# Altium integrated library TI Data Converters Analog to Digital Converter.IntLib: 2198 symbols (part 110 of 164)
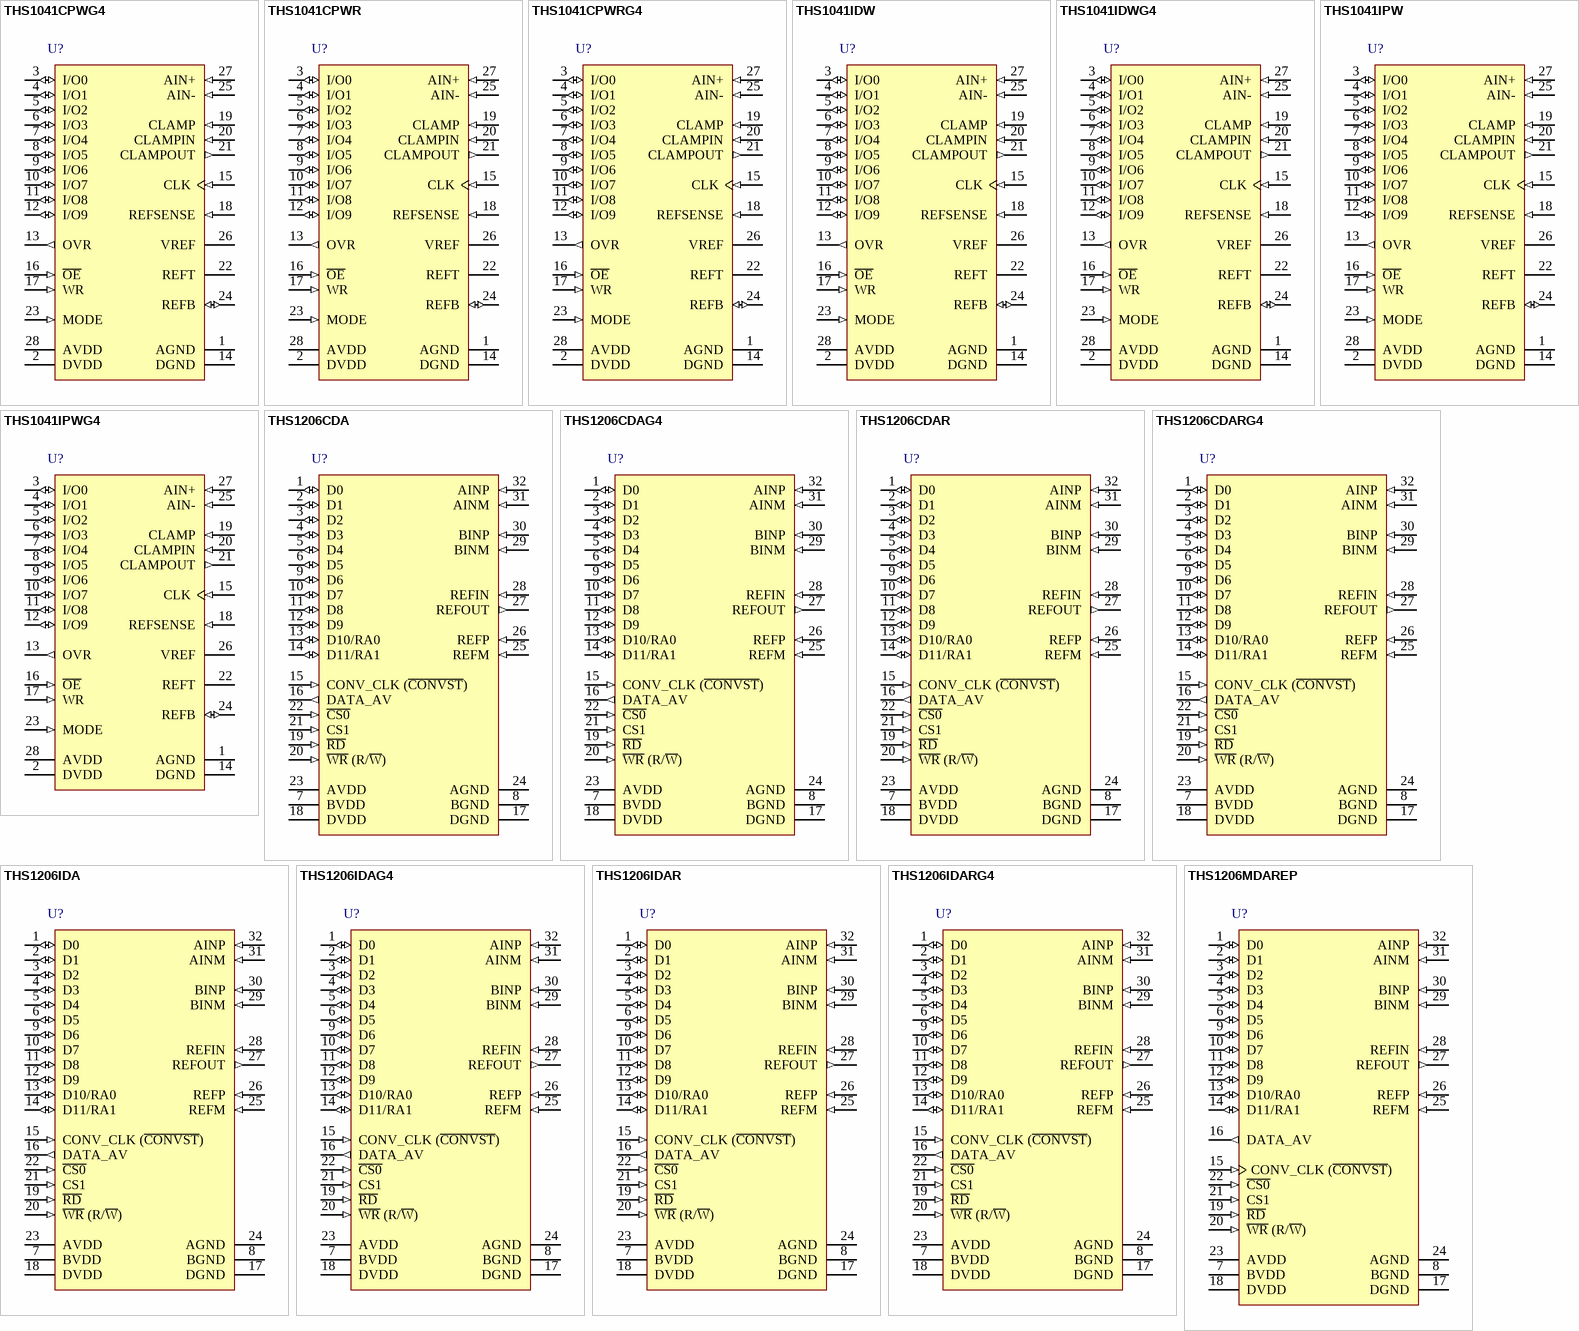
[diagram p235: symbols THS1041CPWG4 to THS1206MDAREP]

## THS1206CDAR
designator U?
12-Bit, 6 MSPS ADC Quad Channel (Configuration), DSP / uP Interface, Integral 16 x FIFO, Channel Autoscan, Low Power, 0 to 70 degC, 32-pin SOP (DA32), Green (RoHS & no Sb/Br); Manufacturer: Texas Instruments; PartNumber: THS1206CDAR; # Input Channels: 4; Analog Voltage AV/DD(Max)(V): 5.25; Analog Voltage AV/DD(Min)(V): 4.75; Architecture: Pipeline; Digital Supply(Min)(V): 3; ENOB(Bits): 11; INL(Max)(+/-LSB): 1.5; Interface: Parallel CMOS; Resolution(Bits): 12; Sample Rate (max)(SPS): 6M; SFDR(dB): 71; SINAD(dB): 65; SNR(dB): 69; SubFamily: Precision ADC (<=10MSPS); DatasheetVersion: SLAS217H; PackageVersion: 4040066/F, 01/2009; PackageReference: DA32; PackageDescription: 32-Pin Plastic Small Outline, Body 11 x 6.1 mm, Pitch 0.65 mm; Supplier 1: Mouser; Supplier Part Number 1: 595-V62/03608-03XE; Digital Supply(Max)(V): 5.25; Eco-Plan: Green (RoHS & no Sb/Br); Mounting Technology: Surface Mount; Code_JEDEC: MO-225; ComponentLink1Description: Manufacturer URL; ComponentLink1URL: http://www.ti.com/; ComponentLink2Description: Datasheet; ComponentLink2URL: http://www.ti.com/general/docs/lit/getliterature.tsp?genericPartNumber=THS1206&fileType=pdf; ComponentLink3Description: Package Specification; ComponentLink3URL: http://www.ti.com/lit/ml/mtss002e/mtss002e.pdf
footprint TI-DA32_N (SOP, 32-Leads, Body 11x6.1mm, Pitch 0.65mm, IPC Medium Density)
footprint TI-DA32_L (SOP, 32-Leads, Body 11x6.1mm, Pitch 0.65mm, IPC High Density)
footprint TI-DA32_M (SOP, 32-Leads, Body 11x6.1mm, Pitch 0.65mm, IPC Low Density)
pins: 1 D0 (io) "Digital input, output; D0 = LSB", 2 D1 (io) "Digital input, output", 3 D2 (io) "Digital input, output", 4 D3 (io) "Digital input, output", 5 D4 (io) "Digital input, output", 6 D5 (io) "Digital input, output", 7 BVDD (power) "Digital supply voltage for buffer", 8 BGND (power) "Digital ground for buffer", 9 D6 (io) "Digital input, output", 10 D7 (io) "Digital input, output", 11 D8 (io) "Digital input, output", 12 D9 (io) "Digital input, output", 13 D10/RA0 (io) "Digital input, output. The data line D10 is also used as an address line (RA0) for the control register. This is required for writing to the control register 0 and control register 1.", 14 D11/RA1 (io) "Digital input, output (D11 = MSB). The data line D11 is also used as an address line (RA1) for the control register. This is required for writing to control register 0 and control register 1.", 15 CONV_CLK (~{CONVST}) (in) "Digital input. This input is used to apply an external conversion clock in continuous conversion mode. In single conversion mode, this input functions as the conversion start (C\O\N\V\S\T\) input. A high to low transition on (See Datasheet)", 16 DATA_AV (out) "Data available signal, which can be used to generate an interrupt for processors and as a level information of the internal FIFO. This signal can be configured to be active low or high and can be configured as a static level (See Datasheet)", 17 DGND (power) "Digital ground. Ground reference for digital circuitry.", 18 DVDD (power) "Digital supply voltage", 19 ~{RD} (in) "The R\D\ input is used only if the W\R\ input is configured as a write only input. In this case, it is a digital input, active low as a data read select from the processor.", 20 ~{WR} (R/~{W}) (in) "This input is programmable. It functions as a read-write input R/W and can also be configured as a write-only input W\R\, which is active low and used as data write select from the processor. In this case, the R\D\ input is (See Datasheet)", 21 CS1 (in) "Chip select input (active high)", 22 ~{CS0} (in) "Chip select input (active low)", 23 AVDD (power) "Analog supply voltage", 24 AGND (power) "Analog ground", 25 REFM (in) "Reference input, requires a bypass capacitor of 10 uF to AGND in order to bypass the internal reference voltage. An external reference voltage at this input can be applied. This option can be programmed through control (See Datasheet)", 26 REFP (in) "Reference input, requires a bypass capacitor of 10 uF to AGND in order to bypass the internal reference voltage. An external reference voltage at this input can be applied. This option can be programmed through control (See Datasheet)", 27 REFOUT (out) "Analog fixed reference output voltage of 2.5 V. Sink and source capability of 250 uA. The reference output requires a capacitor of 10 uF to AGND for filtering and stability.", 28 REFIN (in) "Common-mode reference input for the analog input channels. It is recommended that this pin be connected to the reference output REFOUT.", 29 BINM (in) "Analog input, single-ended or negative input of differential channel B", 30 BINP (in) "Analog input, single-ended or positive input of differential channel B", 31 AINM (in) "Analog input, single-ended or negative input of differential channel A", 32 AINP (in) "Analog input, single-ended or positive input of differential channel A"

## THS1206CDARG4
designator U?
12-Bit, 6 MSPS ADC Quad Channel (Configuration), DSP / uP Interface, Integral 16 x FIFO, Channel Autoscan, Low Power, 0 to 70 degC, 32-pin SOP (DA32), Green (RoHS & no Sb/Br); Manufacturer: Texas Instruments; PartNumber: THS1206CDARG4; # Input Channels: 4; Analog Voltage AV/DD(Max)(V): 5.25; Analog Voltage AV/DD(Min)(V): 4.75; Architecture: Pipeline; Digital Supply(Min)(V): 3; ENOB(Bits): 11; INL(Max)(+/-LSB): 1.5; Interface: Parallel CMOS; Resolution(Bits): 12; Sample Rate (max)(SPS): 6M; SFDR(dB): 71; SINAD(dB): 65; SNR(dB): 69; SubFamily: Precision ADC (<=10MSPS); DatasheetVersion: SLAS217H; PackageVersion: 4040066/F, 01/2009; PackageReference: DA32; PackageDescription: 32-Pin Plastic Small Outline, Body 11 x 6.1 mm, Pitch 0.65 mm; Supplier 1: Digi-Key; Supplier Part Number 1: 296-18129-2-ND; Digital Supply(Max)(V): 5.25; Eco-Plan: Green (RoHS & no Sb/Br); Mounting Technology: Surface Mount; Code_JEDEC: MO-225; ComponentLink1Description: Manufacturer URL; ComponentLink1URL: http://www.ti.com/; ComponentLink2Description: Datasheet; ComponentLink2URL: http://www.ti.com/general/docs/lit/getliterature.tsp?genericPartNumber=THS1206&fileType=pdf; ComponentLink3Description: Package Specification; ComponentLink3URL: http://www.ti.com/lit/ml/mtss002e/mtss002e.pdf
footprint TI-DA32_N (SOP, 32-Leads, Body 11x6.1mm, Pitch 0.65mm, IPC Medium Density)
footprint TI-DA32_L (SOP, 32-Leads, Body 11x6.1mm, Pitch 0.65mm, IPC High Density)
footprint TI-DA32_M (SOP, 32-Leads, Body 11x6.1mm, Pitch 0.65mm, IPC Low Density)
pins: 1 D0 (io) "Digital input, output; D0 = LSB", 2 D1 (io) "Digital input, output", 3 D2 (io) "Digital input, output", 4 D3 (io) "Digital input, output", 5 D4 (io) "Digital input, output", 6 D5 (io) "Digital input, output", 7 BVDD (power) "Digital supply voltage for buffer", 8 BGND (power) "Digital ground for buffer", 9 D6 (io) "Digital input, output", 10 D7 (io) "Digital input, output", 11 D8 (io) "Digital input, output", 12 D9 (io) "Digital input, output", 13 D10/RA0 (io) "Digital input, output. The data line D10 is also used as an address line (RA0) for the control register. This is required for writing to the control register 0 and control register 1.", 14 D11/RA1 (io) "Digital input, output (D11 = MSB). The data line D11 is also used as an address line (RA1) for the control register. This is required for writing to control register 0 and control register 1.", 15 CONV_CLK (~{CONVST}) (in) "Digital input. This input is used to apply an external conversion clock in continuous conversion mode. In single conversion mode, this input functions as the conversion start (C\O\N\V\S\T\) input. A high to low transition on (See Datasheet)", 16 DATA_AV (out) "Data available signal, which can be used to generate an interrupt for processors and as a level information of the internal FIFO. This signal can be configured to be active low or high and can be configured as a static level (See Datasheet)", 17 DGND (power) "Digital ground. Ground reference for digital circuitry.", 18 DVDD (power) "Digital supply voltage", 19 ~{RD} (in) "The R\D\ input is used only if the W\R\ input is configured as a write only input. In this case, it is a digital input, active low as a data read select from the processor.", 20 ~{WR} (R/~{W}) (in) "This input is programmable. It functions as a read-write input R/W and can also be configured as a write-only input W\R\, which is active low and used as data write select from the processor. In this case, the R\D\ input is (See Datasheet)", 21 CS1 (in) "Chip select input (active high)", 22 ~{CS0} (in) "Chip select input (active low)", 23 AVDD (power) "Analog supply voltage", 24 AGND (power) "Analog ground", 25 REFM (in) "Reference input, requires a bypass capacitor of 10 uF to AGND in order to bypass the internal reference voltage. An external reference voltage at this input can be applied. This option can be programmed through control (See Datasheet)", 26 REFP (in) "Reference input, requires a bypass capacitor of 10 uF to AGND in order to bypass the internal reference voltage. An external reference voltage at this input can be applied. This option can be programmed through control (See Datasheet)", 27 REFOUT (out) "Analog fixed reference output voltage of 2.5 V. Sink and source capability of 250 uA. The reference output requires a capacitor of 10 uF to AGND for filtering and stability.", 28 REFIN (in) "Common-mode reference input for the analog input channels. It is recommended that this pin be connected to the reference output REFOUT.", 29 BINM (in) "Analog input, single-ended or negative input of differential channel B", 30 BINP (in) "Analog input, single-ended or positive input of differential channel B", 31 AINM (in) "Analog input, single-ended or negative input of differential channel A", 32 AINP (in) "Analog input, single-ended or positive input of differential channel A"

## THS1206IDA
designator U?
12-Bit, 6 MSPS ADC Quad Channel (Configuration), DSP / uP Interface, Integral 16 x FIFO, Channel Autoscan, Low Power, -40 to 85 degC, 32-pin SOP (DA32), Green (RoHS & no Sb/Br); Manufacturer: Texas Instruments; PartNumber: THS1206IDA; # Input Channels: 4; Analog Voltage AV/DD(Max)(V): 5.25; Analog Voltage AV/DD(Min)(V): 4.75; Architecture: Pipeline; Digital Supply(Min)(V): 3; ENOB(Bits): 11; INL(Max)(+/-LSB): 1.5; Interface: Parallel CMOS; Resolution(Bits): 12; Sample Rate (max)(SPS): 6M; SFDR(dB): 71; SINAD(dB): 65; SNR(dB): 69; SubFamily: Precision ADC (<=10MSPS); DatasheetVersion: SLAS217H; PackageVersion: 4040066/F, 01/2009; PackageReference: DA32; PackageDescription: 32-Pin Plastic Small Outline, Body 11 x 6.1 mm, Pitch 0.65 mm; Supplier 1: Mouser; Supplier Part Number 1: 595-V62/03609-01XE; Digital Supply(Max)(V): 5.25; Eco-Plan: Green (RoHS & no Sb/Br); Mounting Technology: Surface Mount; Code_JEDEC: MO-225; ComponentLink1Description: Manufacturer URL; ComponentLink1URL: http://www.ti.com/; ComponentLink2Description: Datasheet; ComponentLink2URL: http://www.ti.com/general/docs/lit/getliterature.tsp?genericPartNumber=THS1206&fileType=pdf; ComponentLink3Description: Package Specification; ComponentLink3URL: http://www.ti.com/lit/ml/mtss002e/mtss002e.pdf
footprint TI-DA32_N (SOP, 32-Leads, Body 11x6.1mm, Pitch 0.65mm, IPC Medium Density)
footprint TI-DA32_L (SOP, 32-Leads, Body 11x6.1mm, Pitch 0.65mm, IPC High Density)
footprint TI-DA32_M (SOP, 32-Leads, Body 11x6.1mm, Pitch 0.65mm, IPC Low Density)
pins: 1 D0 (io) "Digital input, output; D0 = LSB", 2 D1 (io) "Digital input, output", 3 D2 (io) "Digital input, output", 4 D3 (io) "Digital input, output", 5 D4 (io) "Digital input, output", 6 D5 (io) "Digital input, output", 7 BVDD (power) "Digital supply voltage for buffer", 8 BGND (power) "Digital ground for buffer", 9 D6 (io) "Digital input, output", 10 D7 (io) "Digital input, output", 11 D8 (io) "Digital input, output", 12 D9 (io) "Digital input, output", 13 D10/RA0 (io) "Digital input, output. The data line D10 is also used as an address line (RA0) for the control register. This is required for writing to the control register 0 and control register 1.", 14 D11/RA1 (io) "Digital input, output (D11 = MSB). The data line D11 is also used as an address line (RA1) for the control register. This is required for writing to control register 0 and control register 1.", 15 CONV_CLK (~{CONVST}) (in) "Digital input. This input is used to apply an external conversion clock in continuous conversion mode. In single conversion mode, this input functions as the conversion start (C\O\N\V\S\T\) input. A high to low transition on (See Datasheet)", 16 DATA_AV (out) "Data available signal, which can be used to generate an interrupt for processors and as a level information of the internal FIFO. This signal can be configured to be active low or high and can be configured as a static level (See Datasheet)", 17 DGND (power) "Digital ground. Ground reference for digital circuitry.", 18 DVDD (power) "Digital supply voltage", 19 ~{RD} (in) "The R\D\ input is used only if the W\R\ input is configured as a write only input. In this case, it is a digital input, active low as a data read select from the processor.", 20 ~{WR} (R/~{W}) (in) "This input is programmable. It functions as a read-write input R/W and can also be configured as a write-only input W\R\, which is active low and used as data write select from the processor. In this case, the R\D\ input is (See Datasheet)", 21 CS1 (in) "Chip select input (active high)", 22 ~{CS0} (in) "Chip select input (active low)", 23 AVDD (power) "Analog supply voltage", 24 AGND (power) "Analog ground", 25 REFM (in) "Reference input, requires a bypass capacitor of 10 uF to AGND in order to bypass the internal reference voltage. An external reference voltage at this input can be applied. This option can be programmed through control (See Datasheet)", 26 REFP (in) "Reference input, requires a bypass capacitor of 10 uF to AGND in order to bypass the internal reference voltage. An external reference voltage at this input can be applied. This option can be programmed through control (See Datasheet)", 27 REFOUT (out) "Analog fixed reference output voltage of 2.5 V. Sink and source capability of 250 uA. The reference output requires a capacitor of 10 uF to AGND for filtering and stability.", 28 REFIN (in) "Common-mode reference input for the analog input channels. It is recommended that this pin be connected to the reference output REFOUT.", 29 BINM (in) "Analog input, single-ended or negative input of differential channel B", 30 BINP (in) "Analog input, single-ended or positive input of differential channel B", 31 AINM (in) "Analog input, single-ended or negative input of differential channel A", 32 AINP (in) "Analog input, single-ended or positive input of differential channel A"

## THS1206IDAG4
designator U?
12-Bit, 6 MSPS ADC Quad Channel (Configuration), DSP / uP Interface, Integral 16 x FIFO, Channel Autoscan, Low Power, -40 to 85 degC, 32-pin SOP (DA32), Green (RoHS & no Sb/Br); Manufacturer: Texas Instruments; PartNumber: THS1206IDAG4; # Input Channels: 4; Analog Voltage AV/DD(Max)(V): 5.25; Analog Voltage AV/DD(Min)(V): 4.75; Architecture: Pipeline; Digital Supply(Min)(V): 3; ENOB(Bits): 11; INL(Max)(+/-LSB): 1.5; Interface: Parallel CMOS; Resolution(Bits): 12; Sample Rate (max)(SPS): 6M; SFDR(dB): 71; SINAD(dB): 65; SNR(dB): 69; SubFamily: Precision ADC (<=10MSPS); DatasheetVersion: SLAS217H; PackageVersion: 4040066/F, 01/2009; PackageReference: DA32; PackageDescription: 32-Pin Plastic Small Outline, Body 11 x 6.1 mm, Pitch 0.65 mm; Supplier 1: Digi-Key; Supplier Part Number 1: 296-29579-2-ND; Digital Supply(Max)(V): 5.25; Eco-Plan: Green (RoHS & no Sb/Br); Mounting Technology: Surface Mount; Code_JEDEC: MO-225; ComponentLink1Description: Manufacturer URL; ComponentLink1URL: http://www.ti.com/; ComponentLink2Description: Datasheet; ComponentLink2URL: http://www.ti.com/general/docs/lit/getliterature.tsp?genericPartNumber=THS1206&fileType=pdf; ComponentLink3Description: Package Specification; ComponentLink3URL: http://www.ti.com/lit/ml/mtss002e/mtss002e.pdf
footprint TI-DA32_N (SOP, 32-Leads, Body 11x6.1mm, Pitch 0.65mm, IPC Medium Density)
footprint TI-DA32_L (SOP, 32-Leads, Body 11x6.1mm, Pitch 0.65mm, IPC High Density)
footprint TI-DA32_M (SOP, 32-Leads, Body 11x6.1mm, Pitch 0.65mm, IPC Low Density)
pins: 1 D0 (io) "Digital input, output; D0 = LSB", 2 D1 (io) "Digital input, output", 3 D2 (io) "Digital input, output", 4 D3 (io) "Digital input, output", 5 D4 (io) "Digital input, output", 6 D5 (io) "Digital input, output", 7 BVDD (power) "Digital supply voltage for buffer", 8 BGND (power) "Digital ground for buffer", 9 D6 (io) "Digital input, output", 10 D7 (io) "Digital input, output", 11 D8 (io) "Digital input, output", 12 D9 (io) "Digital input, output", 13 D10/RA0 (io) "Digital input, output. The data line D10 is also used as an address line (RA0) for the control register. This is required for writing to the control register 0 and control register 1.", 14 D11/RA1 (io) "Digital input, output (D11 = MSB). The data line D11 is also used as an address line (RA1) for the control register. This is required for writing to control register 0 and control register 1.", 15 CONV_CLK (~{CONVST}) (in) "Digital input. This input is used to apply an external conversion clock in continuous conversion mode. In single conversion mode, this input functions as the conversion start (C\O\N\V\S\T\) input. A high to low transition on (See Datasheet)", 16 DATA_AV (out) "Data available signal, which can be used to generate an interrupt for processors and as a level information of the internal FIFO. This signal can be configured to be active low or high and can be configured as a static level (See Datasheet)", 17 DGND (power) "Digital ground. Ground reference for digital circuitry.", 18 DVDD (power) "Digital supply voltage", 19 ~{RD} (in) "The R\D\ input is used only if the W\R\ input is configured as a write only input. In this case, it is a digital input, active low as a data read select from the processor.", 20 ~{WR} (R/~{W}) (in) "This input is programmable. It functions as a read-write input R/W and can also be configured as a write-only input W\R\, which is active low and used as data write select from the processor. In this case, the R\D\ input is (See Datasheet)", 21 CS1 (in) "Chip select input (active high)", 22 ~{CS0} (in) "Chip select input (active low)", 23 AVDD (power) "Analog supply voltage", 24 AGND (power) "Analog ground", 25 REFM (in) "Reference input, requires a bypass capacitor of 10 uF to AGND in order to bypass the internal reference voltage. An external reference voltage at this input can be applied. This option can be programmed through control (See Datasheet)", 26 REFP (in) "Reference input, requires a bypass capacitor of 10 uF to AGND in order to bypass the internal reference voltage. An external reference voltage at this input can be applied. This option can be programmed through control (See Datasheet)", 27 REFOUT (out) "Analog fixed reference output voltage of 2.5 V. Sink and source capability of 250 uA. The reference output requires a capacitor of 10 uF to AGND for filtering and stability.", 28 REFIN (in) "Common-mode reference input for the analog input channels. It is recommended that this pin be connected to the reference output REFOUT.", 29 BINM (in) "Analog input, single-ended or negative input of differential channel B", 30 BINP (in) "Analog input, single-ended or positive input of differential channel B", 31 AINM (in) "Analog input, single-ended or negative input of differential channel A", 32 AINP (in) "Analog input, single-ended or positive input of differential channel A"

## THS1206IDAR
designator U?
12-Bit, 6 MSPS ADC Quad Channel (Configuration), DSP / uP Interface, Integral 16 x FIFO, Channel Autoscan, Low Power, -40 to 85 degC, 32-pin SOP (DA32), Green (RoHS & no Sb/Br); Manufacturer: Texas Instruments; PartNumber: THS1206IDAR; # Input Channels: 4; Analog Voltage AV/DD(Max)(V): 5.25; Analog Voltage AV/DD(Min)(V): 4.75; Architecture: Pipeline; Digital Supply(Min)(V): 3; ENOB(Bits): 11; INL(Max)(+/-LSB): 1.5; Interface: Parallel CMOS; Resolution(Bits): 12; Sample Rate (max)(SPS): 6M; SFDR(dB): 71; SINAD(dB): 65; SNR(dB): 69; SubFamily: Precision ADC (<=10MSPS); DatasheetVersion: SLAS217H; PackageVersion: 4040066/F, 01/2009; PackageReference: DA32; PackageDescription: 32-Pin Plastic Small Outline, Body 11 x 6.1 mm, Pitch 0.65 mm; Supplier 1: Digi-Key; Supplier Part Number 1: 296-29750-2-ND; Digital Supply(Max)(V): 5.25; Eco-Plan: Green (RoHS & no Sb/Br); Mounting Technology: Surface Mount; Code_JEDEC: MO-225; ComponentLink1Description: Manufacturer URL; ComponentLink1URL: http://www.ti.com/; ComponentLink2Description: Datasheet; ComponentLink2URL: http://www.ti.com/general/docs/lit/getliterature.tsp?genericPartNumber=THS1206&fileType=pdf; ComponentLink3Description: Package Specification; ComponentLink3URL: http://www.ti.com/lit/ml/mtss002e/mtss002e.pdf
footprint TI-DA32_N (SOP, 32-Leads, Body 11x6.1mm, Pitch 0.65mm, IPC Medium Density)
footprint TI-DA32_L (SOP, 32-Leads, Body 11x6.1mm, Pitch 0.65mm, IPC High Density)
footprint TI-DA32_M (SOP, 32-Leads, Body 11x6.1mm, Pitch 0.65mm, IPC Low Density)
pins: 1 D0 (io) "Digital input, output; D0 = LSB", 2 D1 (io) "Digital input, output", 3 D2 (io) "Digital input, output", 4 D3 (io) "Digital input, output", 5 D4 (io) "Digital input, output", 6 D5 (io) "Digital input, output", 7 BVDD (power) "Digital supply voltage for buffer", 8 BGND (power) "Digital ground for buffer", 9 D6 (io) "Digital input, output", 10 D7 (io) "Digital input, output", 11 D8 (io) "Digital input, output", 12 D9 (io) "Digital input, output", 13 D10/RA0 (io) "Digital input, output. The data line D10 is also used as an address line (RA0) for the control register. This is required for writing to the control register 0 and control register 1.", 14 D11/RA1 (io) "Digital input, output (D11 = MSB). The data line D11 is also used as an address line (RA1) for the control register. This is required for writing to control register 0 and control register 1.", 15 CONV_CLK (~{CONVST}) (in) "Digital input. This input is used to apply an external conversion clock in continuous conversion mode. In single conversion mode, this input functions as the conversion start (C\O\N\V\S\T\) input. A high to low transition on (See Datasheet)", 16 DATA_AV (out) "Data available signal, which can be used to generate an interrupt for processors and as a level information of the internal FIFO. This signal can be configured to be active low or high and can be configured as a static level (See Datasheet)", 17 DGND (power) "Digital ground. Ground reference for digital circuitry.", 18 DVDD (power) "Digital supply voltage", 19 ~{RD} (in) "The R\D\ input is used only if the W\R\ input is configured as a write only input. In this case, it is a digital input, active low as a data read select from the processor.", 20 ~{WR} (R/~{W}) (in) "This input is programmable. It functions as a read-write input R/W and can also be configured as a write-only input W\R\, which is active low and used as data write select from the processor. In this case, the R\D\ input is (See Datasheet)", 21 CS1 (in) "Chip select input (active high)", 22 ~{CS0} (in) "Chip select input (active low)", 23 AVDD (power) "Analog supply voltage", 24 AGND (power) "Analog ground", 25 REFM (in) "Reference input, requires a bypass capacitor of 10 uF to AGND in order to bypass the internal reference voltage. An external reference voltage at this input can be applied. This option can be programmed through control (See Datasheet)", 26 REFP (in) "Reference input, requires a bypass capacitor of 10 uF to AGND in order to bypass the internal reference voltage. An external reference voltage at this input can be applied. This option can be programmed through control (See Datasheet)", 27 REFOUT (out) "Analog fixed reference output voltage of 2.5 V. Sink and source capability of 250 uA. The reference output requires a capacitor of 10 uF to AGND for filtering and stability.", 28 REFIN (in) "Common-mode reference input for the analog input channels. It is recommended that this pin be connected to the reference output REFOUT.", 29 BINM (in) "Analog input, single-ended or negative input of differential channel B", 30 BINP (in) "Analog input, single-ended or positive input of differential channel B", 31 AINM (in) "Analog input, single-ended or negative input of differential channel A", 32 AINP (in) "Analog input, single-ended or positive input of differential channel A"

## THS1206IDARG4
designator U?
12-Bit, 6 MSPS ADC Quad Channel (Configuration), DSP / uP Interface, Integral 16 x FIFO, Channel Autoscan, Low Power, -40 to 85 degC, 32-pin SOP (DA32), Green (RoHS & no Sb/Br); Manufacturer: Texas Instruments; PartNumber: THS1206IDARG4; # Input Channels: 4; Analog Voltage AV/DD(Max)(V): 5.25; Analog Voltage AV/DD(Min)(V): 4.75; Architecture: Pipeline; Digital Supply(Min)(V): 3; ENOB(Bits): 11; INL(Max)(+/-LSB): 1.5; Interface: Parallel CMOS; Resolution(Bits): 12; Sample Rate (max)(SPS): 6M; SFDR(dB): 71; SINAD(dB): 65; SNR(dB): 69; SubFamily: Precision ADC (<=10MSPS); DatasheetVersion: SLAS217H; PackageVersion: 4040066/F, 01/2009; PackageReference: DA32; PackageDescription: 32-Pin Plastic Small Outline, Body 11 x 6.1 mm, Pitch 0.65 mm; Supplier 1: Digi-Key; Supplier Part Number 1: 296-2970-5-ND; Digital Supply(Max)(V): 5.25; Eco-Plan: Green (RoHS & no Sb/Br); Mounting Technology: Surface Mount; Code_JEDEC: MO-225; ComponentLink1Description: Manufacturer URL; ComponentLink1URL: http://www.ti.com/; ComponentLink2Description: Datasheet; ComponentLink2URL: http://www.ti.com/general/docs/lit/getliterature.tsp?genericPartNumber=THS1206&fileType=pdf; ComponentLink3Description: Package Specification; ComponentLink3URL: http://www.ti.com/lit/ml/mtss002e/mtss002e.pdf
footprint TI-DA32_N (SOP, 32-Leads, Body 11x6.1mm, Pitch 0.65mm, IPC Medium Density)
footprint TI-DA32_L (SOP, 32-Leads, Body 11x6.1mm, Pitch 0.65mm, IPC High Density)
footprint TI-DA32_M (SOP, 32-Leads, Body 11x6.1mm, Pitch 0.65mm, IPC Low Density)
pins: 1 D0 (io) "Digital input, output; D0 = LSB", 2 D1 (io) "Digital input, output", 3 D2 (io) "Digital input, output", 4 D3 (io) "Digital input, output", 5 D4 (io) "Digital input, output", 6 D5 (io) "Digital input, output", 7 BVDD (power) "Digital supply voltage for buffer", 8 BGND (power) "Digital ground for buffer", 9 D6 (io) "Digital input, output", 10 D7 (io) "Digital input, output", 11 D8 (io) "Digital input, output", 12 D9 (io) "Digital input, output", 13 D10/RA0 (io) "Digital input, output. The data line D10 is also used as an address line (RA0) for the control register. This is required for writing to the control register 0 and control register 1.", 14 D11/RA1 (io) "Digital input, output (D11 = MSB). The data line D11 is also used as an address line (RA1) for the control register. This is required for writing to control register 0 and control register 1.", 15 CONV_CLK (~{CONVST}) (in) "Digital input. This input is used to apply an external conversion clock in continuous conversion mode. In single conversion mode, this input functions as the conversion start (C\O\N\V\S\T\) input. A high to low transition on (See Datasheet)", 16 DATA_AV (out) "Data available signal, which can be used to generate an interrupt for processors and as a level information of the internal FIFO. This signal can be configured to be active low or high and can be configured as a static level (See Datasheet)", 17 DGND (power) "Digital ground. Ground reference for digital circuitry.", 18 DVDD (power) "Digital supply voltage", 19 ~{RD} (in) "The R\D\ input is used only if the W\R\ input is configured as a write only input. In this case, it is a digital input, active low as a data read select from the processor.", 20 ~{WR} (R/~{W}) (in) "This input is programmable. It functions as a read-write input R/W and can also be configured as a write-only input W\R\, which is active low and used as data write select from the processor. In this case, the R\D\ input is (See Datasheet)", 21 CS1 (in) "Chip select input (active high)", 22 ~{CS0} (in) "Chip select input (active low)", 23 AVDD (power) "Analog supply voltage", 24 AGND (power) "Analog ground", 25 REFM (in) "Reference input, requires a bypass capacitor of 10 uF to AGND in order to bypass the internal reference voltage. An external reference voltage at this input can be applied. This option can be programmed through control (See Datasheet)", 26 REFP (in) "Reference input, requires a bypass capacitor of 10 uF to AGND in order to bypass the internal reference voltage. An external reference voltage at this input can be applied. This option can be programmed through control (See Datasheet)", 27 REFOUT (out) "Analog fixed reference output voltage of 2.5 V. Sink and source capability of 250 uA. The reference output requires a capacitor of 10 uF to AGND for filtering and stability.", 28 REFIN (in) "Common-mode reference input for the analog input channels. It is recommended that this pin be connected to the reference output REFOUT.", 29 BINM (in) "Analog input, single-ended or negative input of differential channel B", 30 BINP (in) "Analog input, single-ended or positive input of differential channel B", 31 AINM (in) "Analog input, single-ended or negative input of differential channel A", 32 AINP (in) "Analog input, single-ended or positive input of differential channel A"

## THS1206MDAREP
designator U?
Enhanced Product 12-Bit, 6 MSPS ADC Quad Channel, DSP / uP Interface, 16 x FIFO, -55 to 125 degC, 32-pin SOP (DA32), Green (RoHS & no Sb/Br); Manufacturer: Texas Instruments; PartNumber: THS1206MDAREP; # Input Channels: 4; Analog Voltage AV/DD(Max)(V): 5.25; Analog Voltage AV/DD(Min)(V): 4.75; Architecture: Pipeline; Digital Supply(Min)(V): 3; ENOB(Bits): 11; INL(Max)(+/-LSB): 1.8; Interface: Parallel CMOS; Resolution(Bits): 12; Sample Rate (max)(SPS): 6M; SFDR(dB): 71; SINAD(dB): 65; SNR(dB): 69; SubFamily: Precision ADC (<=10MSPS); DatasheetVersion: SGLS126A; PackageVersion: 4040066/F, 01/2009; PackageReference: DA32; PackageDescription: 32-Pin Plastic Small Outline, Body 11 x 6.1 mm, Pitch 0.65 mm; Supplier 1: Digi-Key; Supplier Part Number 1: TLV1572CDG4-ND; Digital Supply(Max)(V): 5.25; Eco-Plan: Green (RoHS & no Sb/Br); Mounting Technology: Surface Mount; Code_JEDEC: MO-225; ComponentLink1Description: Manufacturer URL; ComponentLink1URL: http://www.ti.com/; ComponentLink2Description: Datasheet; ComponentLink2URL: http://www.ti.com/general/docs/lit/getliterature.tsp?genericPartNumber=THS1206-EP&fileType=pdf; ComponentLink3Description: Package Specification; ComponentLink3URL: http://www.ti.com/lit/ml/mtss002e/mtss002e.pdf
footprint TI-DA32_N (SOP, 32-Leads, Body 11x6.1mm, Pitch 0.65mm, IPC Medium Density)
footprint TI-DA32_L (SOP, 32-Leads, Body 11x6.1mm, Pitch 0.65mm, IPC High Density)
footprint TI-DA32_M (SOP, 32-Leads, Body 11x6.1mm, Pitch 0.65mm, IPC Low Density)
pins: 1 D0 (io) "Digital input, output; D0 = LSB", 2 D1 (io) "Digital input, output; D0 = LSB", 3 D2 (io) "Digital input, output; D0 = LSB", 4 D3 (io) "Digital input, output; D0 = LSB", 5 D4 (io) "Digital input, output; D0 = LSB", 6 D5 (io) "Digital input, output; D0 = LSB", 7 BVDD (power) "Digital supply voltage for buffer", 8 BGND (power) "Digital ground for buffer", 9 D6 (io) "Digital input, output; D0 = LSB", 10 D7 (io) "Digital input, output; D0 = LSB", 11 D8 (io) "Digital input, output; D0 = LSB", 12 D9 (io) "Digital input, output; D0 = LSB", 13 D10/RA0 (io) "Digital input, output. The data line D10 is also used as an address line (RA0) for the control register. This is required for writing to control register 0 and control register 1. See Table 8.", 14 D11/RA1 (io) "Digital input, output (D11 = MSB). The data line D11 is also used as an address line (RA1) for the control register. This is required for writing to control register 0 and control register 1. See Table 8.", 15 CONV_CLK (~{CONVST}) (in) "Digital input. This input is used to apply an external conversion clock in the continuous conversion mode. In the single conversion mode, this input functions as the conversion start (C\O\N\V\S\T\) input. A high to low (See Datasheet)", 16 DATA_AV (out) "Data available signal, which can be used to generate an interrupt for processors and as a level information of the internal FIFO. This signal can be configured to be active low or high and can be configured as a static level (See Datasheet)", 17 DGND (power) "Digital ground. Ground reference for digital circuitry.", 18 DVDD (power) "Digital supply voltage", 19 ~{RD} (in) "The R\D\ input is used only if the W\R\ input is configured as a write only input. In this case, it is a digital input, active low as a data read select from the processor. See timing section.", 20 ~{WR} (R/~{W}) (in) "This input is programmable. It functions as a read-write input (R/W\) and can also be configured as a write-only input (W\R\), which is active low and used as data write select from the processor. In this case, the R\D\ (See Datasheet)", 21 CS1 (in) "Chip select input (active high)", 22 ~{CS0} (in) "Chip select input (active low)", 23 AVDD (power) "Analog supply voltage", 24 AGND (power) "Analog ground", 25 REFM (in) "Reference input, requires a bypass capacitor of 10 uF to AGND in order to bypass the internal reference voltage. An external reference voltage at this input can be applied. This option can be programmed through control (See Datasheet)", 26 REFP (in) "Reference input, requires a bypass capacitor of 10 uF to AGND in order to bypass the internal reference voltage. An external reference voltage at this input can be applied. This option can be programmed through control (See Datasheet)", 27 REFOUT (out) "Analog fixed reference output voltage of 2.5 V. Sink and source capability of 250 uA. The reference output requires a capacitor of 10 uF to AGND for filtering and stability.", 28 REFIN (in) "Common-mode reference input for the analog input channels. It is recommended that this pin be connected to the reference output REFOUT.", 29 BINM (in) "Analog input, single-ended or negative input of differential channel B", 30 BINP (in) "Analog input, single-ended or positive input of differential channel B", 31 AINM (in) "Analog input, single-ended or negative input of differential channel A", 32 AINP (in) "Analog input, single-ended or positive input of differential channel A"

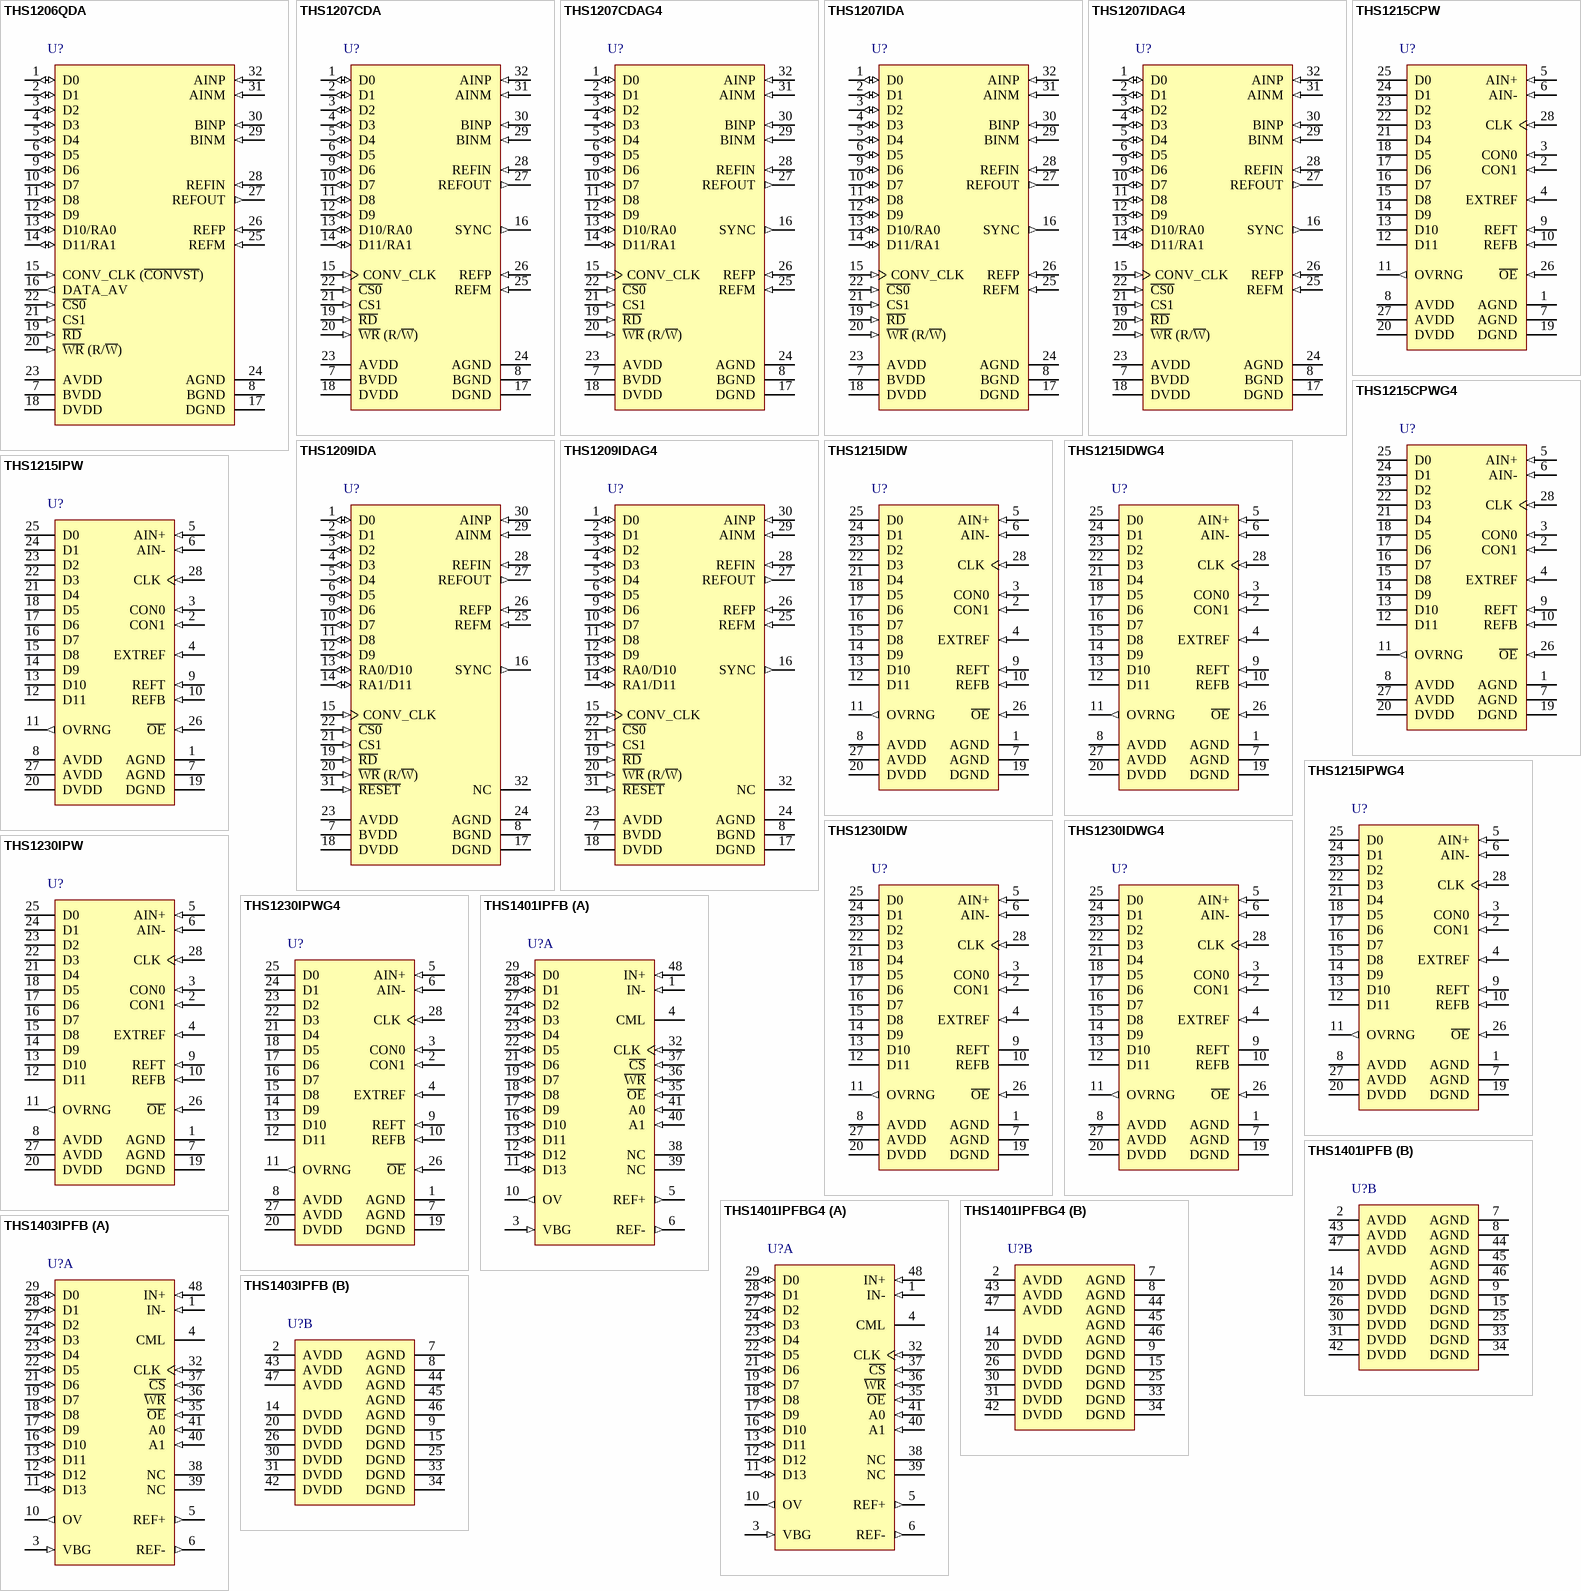
[diagram p97: symbols THS1206QDA to THS1403IPFB]

## THS1206QDA
designator U?
12-Bit, 6 MSPS ADC Quad Channel (Configuration), DSP / uP Interface, Integral 16 x FIFO, Channel Autoscan, Low Power, -40 to 125, 32-pin SOP (DA32); Manufacturer: Texas Instruments; PartNumber: THS1206QDA; # Input Channels: 4; Analog Voltage AV/DD(Max)(V): 5.25; Analog Voltage AV/DD(Min)(V): 4.75; Architecture: Pipeline; Digital Supply(Min)(V): 3; ENOB(Bits): 11; INL(Max)(+/-LSB): 1.8; Interface: Parallel CMOS; Resolution(Bits): 12; Sample Rate (max)(SPS): 6M; SFDR(dB): 71; SINAD(dB): 65; SNR(dB): 69; SubFamily: Precision ADC (<=10MSPS); DatasheetVersion: SLAS217H; PackageVersion: 4040066/F, 01/2009; PackageReference: DA32; PackageDescription: 32-Pin Plastic Small Outline, Body 11 x 6.1 mm, Pitch 0.65 mm; Supplier 1: Digi-Key; Supplier Part Number 1: TLV1572CDR-ND; Digital Supply(Max)(V): 5.25; Mounting Technology: Surface Mount; Code_JEDEC: MO-225; ComponentLink1Description: Manufacturer URL; ComponentLink1URL: http://www.ti.com/; ComponentLink2Description: Datasheet; ComponentLink2URL: http://www.ti.com/general/docs/lit/getliterature.tsp?genericPartNumber=THS1206&fileType=pdf; ComponentLink3Description: Package Specification; ComponentLink3URL: http://www.ti.com/lit/ml/mtss002e/mtss002e.pdf
footprint TI-DA32_N (SOP, 32-Leads, Body 11x6.1mm, Pitch 0.65mm, IPC Medium Density)
footprint TI-DA32_L (SOP, 32-Leads, Body 11x6.1mm, Pitch 0.65mm, IPC High Density)
footprint TI-DA32_M (SOP, 32-Leads, Body 11x6.1mm, Pitch 0.65mm, IPC Low Density)
pins: 1 D0 (io) "Digital input, output; D0 = LSB", 2 D1 (io) "Digital input, output", 3 D2 (io) "Digital input, output", 4 D3 (io) "Digital input, output", 5 D4 (io) "Digital input, output", 6 D5 (io) "Digital input, output", 7 BVDD (power) "Digital supply voltage for buffer", 8 BGND (power) "Digital ground for buffer", 9 D6 (io) "Digital input, output", 10 D7 (io) "Digital input, output", 11 D8 (io) "Digital input, output", 12 D9 (io) "Digital input, output", 13 D10/RA0 (io) "Digital input, output. The data line D10 is also used as an address line (RA0) for the control register. This is required for writing to the control register 0 and control register 1.", 14 D11/RA1 (io) "Digital input, output (D11 = MSB). The data line D11 is also used as an address line (RA1) for the control register. This is required for writing to control register 0 and control register 1.", 15 CONV_CLK (~{CONVST}) (in) "Digital input. This input is used to apply an external conversion clock in continuous conversion mode. In single conversion mode, this input functions as the conversion start (C\O\N\V\S\T\) input. A high to low transition on (See Datasheet)", 16 DATA_AV (out) "Data available signal, which can be used to generate an interrupt for processors and as a level information of the internal FIFO. This signal can be configured to be active low or high and can be configured as a static level (See Datasheet)", 17 DGND (power) "Digital ground. Ground reference for digital circuitry.", 18 DVDD (power) "Digital supply voltage", 19 ~{RD} (in) "The R\D\ input is used only if the W\R\ input is configured as a write only input. In this case, it is a digital input, active low as a data read select from the processor.", 20 ~{WR} (R/~{W}) (in) "This input is programmable. It functions as a read-write input R/W and can also be configured as a write-only input W\R\, which is active low and used as data write select from the processor. In this case, the R\D\ input is (See Datasheet)", 21 CS1 (in) "Chip select input (active high)", 22 ~{CS0} (in) "Chip select input (active low)", 23 AVDD (power) "Analog supply voltage", 24 AGND (power) "Analog ground", 25 REFM (in) "Reference input, requires a bypass capacitor of 10 uF to AGND in order to bypass the internal reference voltage. An external reference voltage at this input can be applied. This option can be programmed through control (See Datasheet)", 26 REFP (in) "Reference input, requires a bypass capacitor of 10 uF to AGND in order to bypass the internal reference voltage. An external reference voltage at this input can be applied. This option can be programmed through control (See Datasheet)", 27 REFOUT (out) "Analog fixed reference output voltage of 2.5 V. Sink and source capability of 250 uA. The reference output requires a capacitor of 10 uF to AGND for filtering and stability.", 28 REFIN (in) "Common-mode reference input for the analog input channels. It is recommended that this pin be connected to the reference output REFOUT.", 29 BINM (in) "Analog input, single-ended or negative input of differential channel B", 30 BINP (in) "Analog input, single-ended or positive input of differential channel B", 31 AINM (in) "Analog input, single-ended or negative input of differential channel A", 32 AINP (in) "Analog input, single-ended or positive input of differential channel A"

## THS1207CDA
designator U?
12-Bit, 6 MSPS Simultaneous Sampling Quad Channel ADC, Includes Parallel DSP / uP Interface & Channel Autoscan, 0 to 70 degC, 32-pin SOP (DA32), Green (RoHS & no Sb/Br); Manufacturer: Texas Instruments; PartNumber: THS1207CDA; # Input Channels: 4; Analog Voltage AV/DD(Max)(V): 5.25; Analog Voltage AV/DD(Min)(V): 4.75; Architecture: Pipeline; INL(Max)(+/-LSB): 1.5; Interface: Parallel CMOS; Resolution(Bits): 12; Sample Rate (max)(SPS): 6M; SFDR(dB): 71; SINAD(dB): 63; SNR(dB): 69; SubFamily: Precision ADC (<=10MSPS); DatasheetVersion: SLAS284A; PackageVersion: 4040066/F, 01/2009; PackageReference: DA32; PackageDescription: 32-Pin Plastic Small Outline, Body 11 x 6.1 mm, Pitch 0.65 mm; Supplier 1: Digi-Key; Supplier Part Number 1: TLV1572CDRG4-ND; Digital Supply(Max)(V): 5.25; Digital Supply(Min)(V): 4.75; Eco-Plan: Green (RoHS & no Sb/Br); Mounting Technology: Surface Mount; Code_JEDEC: MO-225; ComponentLink1Description: Manufacturer URL; ComponentLink1URL: http://www.ti.com/; ComponentLink2Description: Datasheet; ComponentLink2URL: http://www.ti.com/general/docs/lit/getliterature.tsp?genericPartNumber=THS1207&fileType=pdf; ComponentLink3Description: Package Specification; ComponentLink3URL: http://www.ti.com/lit/ml/mtss002e/mtss002e.pdf
footprint TI-DA32_N (SOP, 32-Leads, Body 11x6.1mm, Pitch 0.65mm, IPC Medium Density)
footprint TI-DA32_L (SOP, 32-Leads, Body 11x6.1mm, Pitch 0.65mm, IPC High Density)
footprint TI-DA32_M (SOP, 32-Leads, Body 11x6.1mm, Pitch 0.65mm, IPC Low Density)
pins: 1 D0 (io) "Digital input, output; D0 = LSB", 2 D1 (io) "Digital input, output; D0 = LSB", 3 D2 (io) "Digital input, output; D0 = LSB", 4 D3 (io) "Digital input, output; D0 = LSB", 5 D4 (io) "Digital input, output; D0 = LSB", 6 D5 (io) "Digital input, output; D0 = LSB", 7 BVDD (power) "Digital supply voltage for buffer", 8 BGND (power) "Digital ground for buffer", 9 D6 (io) "Digital input, output; D0 = LSB", 10 D7 (io) "Digital input, output; D0 = LSB", 11 D8 (io) "Digital input, output; D0 = LSB", 12 D9 (io) "Digital input, output; D0 = LSB", 13 D10/RA0 (io) "Digital input, output. The data line D10 is also used as an address line (RA0) for the control register. This is required for writing to the control register 0 and control register 1. See Table 7.", 14 D11/RA1 (io) "Digital input, output (D11 = MSB). The data line D11 is also used as an address line (RA1) for the control register. This is required for writing to control register 0 and control register 1. See Table 7.", 15 CONV_CLK (in) "Digital input. This input is the conversion clock input.", 16 SYNC (out) "Synchronization output. This signal indicates in a multichannel operation that data of channel A is brought to the digital output and can therefore be used for synchronization.", 17 DGND (power) "Digital ground. Ground reference for digital circuitry.", 18 DVDD (power) "Digital supply voltage", 19 ~{RD} (in) "The R\D\ input is used only if the W\R\ input is configured as a write only input. In this case, it is a digital input, active low as a data read select from the processor. See timing section.", 20 ~{WR} (R/~{W}) (in) "This input is programmable. It functions as a read-write input (R/W\) and can also be configured as a write-only input (W\R\), which is active low and used as data write select from the processor. In this case, the R\D\ (See Datasheet)", 21 CS1 (in) "Chip select input (active high)", 22 ~{CS0} (in) "Chip select input (active low)", 23 AVDD (power) "Analog supply voltage", 24 AGND (power) "Analog ground", 25 REFM (in) "Reference input, requires a bypass capacitor of 10 uF to AGND in order to bypass the internal reference voltage. An external reference voltage at this input can be applied. This option can be programmed through control (See Datasheet)", 26 REFP (in) "Reference input, requires a bypass capacitor of 10 uF to AGND in order to bypass the internal reference voltage. An external reference voltage at this input can be applied. This option can be programmed through control (See Datasheet)", 27 REFOUT (out) "Analog fixed reference output voltage of 2.5 V. Sink and source capability of 250 uA. The reference output requires a capacitor of 10 uF to AGND for filtering and stability.", 28 REFIN (in) "Common-mode reference input for the analog input channels. It is recommended that this pin be connected to the reference output REFOUT.", 29 BINM (in) "Analog input, single-ended or negative input of differential channel B", 30 BINP (in) "Analog input, single-ended or positive input of differential channel B", 31 AINM (in) "Analog input, single-ended or negative input of differential channel A", 32 AINP (in) "Analog input, single-ended or positive input of differential channel A"

## THS1207CDAG4
designator U?
12-Bit, 6 MSPS Simultaneous Sampling Quad Channel ADC, Includes Parallel DSP / uP Interface & Channel Autoscan, 0 to 70 degC, 32-pin SOP (DA32), Green (RoHS & no Sb/Br); Manufacturer: Texas Instruments; PartNumber: THS1207CDAG4; # Input Channels: 4; Analog Voltage AV/DD(Max)(V): 5.25; Analog Voltage AV/DD(Min)(V): 4.75; Architecture: Pipeline; INL(Max)(+/-LSB): 1.5; Interface: Parallel CMOS; Resolution(Bits): 12; Sample Rate (max)(SPS): 6M; SFDR(dB): 71; SINAD(dB): 63; SNR(dB): 69; SubFamily: Precision ADC (<=10MSPS); DatasheetVersion: SLAS284A; PackageVersion: 4040066/F, 01/2009; PackageReference: DA32; PackageDescription: 32-Pin Plastic Small Outline, Body 11 x 6.1 mm, Pitch 0.65 mm; Supplier 1: Digi-Key; Supplier Part Number 1: 296-1883-5-ND; Digital Supply(Max)(V): 5.25; Digital Supply(Min)(V): 4.75; Eco-Plan: Green (RoHS & no Sb/Br); Mounting Technology: Surface Mount; Code_JEDEC: MO-225; ComponentLink1Description: Manufacturer URL; ComponentLink1URL: http://www.ti.com/; ComponentLink2Description: Datasheet; ComponentLink2URL: http://www.ti.com/general/docs/lit/getliterature.tsp?genericPartNumber=THS1207&fileType=pdf; ComponentLink3Description: Package Specification; ComponentLink3URL: http://www.ti.com/lit/ml/mtss002e/mtss002e.pdf
footprint TI-DA32_N (SOP, 32-Leads, Body 11x6.1mm, Pitch 0.65mm, IPC Medium Density)
footprint TI-DA32_L (SOP, 32-Leads, Body 11x6.1mm, Pitch 0.65mm, IPC High Density)
footprint TI-DA32_M (SOP, 32-Leads, Body 11x6.1mm, Pitch 0.65mm, IPC Low Density)
pins: 1 D0 (io) "Digital input, output; D0 = LSB", 2 D1 (io) "Digital input, output; D0 = LSB", 3 D2 (io) "Digital input, output; D0 = LSB", 4 D3 (io) "Digital input, output; D0 = LSB", 5 D4 (io) "Digital input, output; D0 = LSB", 6 D5 (io) "Digital input, output; D0 = LSB", 7 BVDD (power) "Digital supply voltage for buffer", 8 BGND (power) "Digital ground for buffer", 9 D6 (io) "Digital input, output; D0 = LSB", 10 D7 (io) "Digital input, output; D0 = LSB", 11 D8 (io) "Digital input, output; D0 = LSB", 12 D9 (io) "Digital input, output; D0 = LSB", 13 D10/RA0 (io) "Digital input, output. The data line D10 is also used as an address line (RA0) for the control register. This is required for writing to the control register 0 and control register 1. See Table 7.", 14 D11/RA1 (io) "Digital input, output (D11 = MSB). The data line D11 is also used as an address line (RA1) for the control register. This is required for writing to control register 0 and control register 1. See Table 7.", 15 CONV_CLK (in) "Digital input. This input is the conversion clock input.", 16 SYNC (out) "Synchronization output. This signal indicates in a multichannel operation that data of channel A is brought to the digital output and can therefore be used for synchronization.", 17 DGND (power) "Digital ground. Ground reference for digital circuitry.", 18 DVDD (power) "Digital supply voltage", 19 ~{RD} (in) "The R\D\ input is used only if the W\R\ input is configured as a write only input. In this case, it is a digital input, active low as a data read select from the processor. See timing section.", 20 ~{WR} (R/~{W}) (in) "This input is programmable. It functions as a read-write input (R/W\) and can also be configured as a write-only input (W\R\), which is active low and used as data write select from the processor. In this case, the R\D\ (See Datasheet)", 21 CS1 (in) "Chip select input (active high)", 22 ~{CS0} (in) "Chip select input (active low)", 23 AVDD (power) "Analog supply voltage", 24 AGND (power) "Analog ground", 25 REFM (in) "Reference input, requires a bypass capacitor of 10 uF to AGND in order to bypass the internal reference voltage. An external reference voltage at this input can be applied. This option can be programmed through control (See Datasheet)", 26 REFP (in) "Reference input, requires a bypass capacitor of 10 uF to AGND in order to bypass the internal reference voltage. An external reference voltage at this input can be applied. This option can be programmed through control (See Datasheet)", 27 REFOUT (out) "Analog fixed reference output voltage of 2.5 V. Sink and source capability of 250 uA. The reference output requires a capacitor of 10 uF to AGND for filtering and stability.", 28 REFIN (in) "Common-mode reference input for the analog input channels. It is recommended that this pin be connected to the reference output REFOUT.", 29 BINM (in) "Analog input, single-ended or negative input of differential channel B", 30 BINP (in) "Analog input, single-ended or positive input of differential channel B", 31 AINM (in) "Analog input, single-ended or negative input of differential channel A", 32 AINP (in) "Analog input, single-ended or positive input of differential channel A"